# EAGLE library part HC_05 (library Bluetooth HC-05_modified)
HC-05 Bluetooth Module
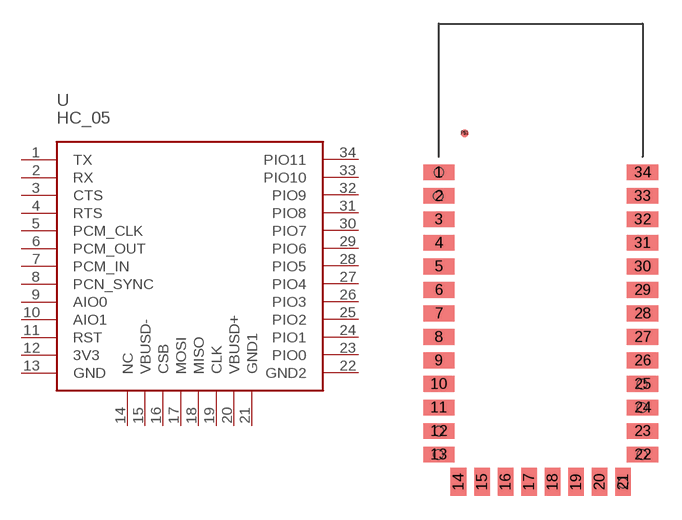
[diagram p0: symbol with the pads of BLUETOOTH_SMD; footprint BLUETOOTH_SMD]

Designator prefix U

## HC_05  [BLUETOOTH_SMD]
1  TX
2  RX
3  CTS
4  RTS
5  PCM_CLK
6  PCM_OUT
7  PCM_IN
8  PCN_SYNC
9  AIO0
10  AIO1
11  RST
12  3V3
13  GND
14  NC
15  VBUSD-
16  CSB
17  MOSI
18  MISO
19  CLK
20  VBUSD+
21  GND1
22  GND2
23  PIO0
24  PIO1
25  PIO2
26  PIO3
27  PIO4
28  PIO5
29  PIO6
30  PIO7
31  PIO8
32  PIO9
33  PIO10
34  PIO11

## HC_05BLUETOOTH_SMD_WITH_HOLES  [BLUETOOTH_SMD]
Pads as for BLUETOOTH_SMD

## Footprint BLUETOOTH_SMD (pad centres in mm)
HC-05
smd 2 x 1: 1 -6.35,3.81; 2 -6.35,2.31; 3 -6.35,0.81; 4 -6.35,-0.69; 5 -6.35,-2.19; 6 -6.35,-3.69; 7 -6.35,-5.19; 8 -6.35,-6.69; 9 -6.35,-8.19; 10 -6.35,-9.69; 11 -6.35,-11.19; 12 -6.35,-12.69; 13 -6.35,-14.19; 22 6.65,-14.19; 23 6.65,-12.69; 24 6.65,-11.19; 25 6.65,-9.69; 26 6.65,-8.19; 27 6.65,-6.69; 28 6.65,-5.19; 29 6.65,-3.69; 30 6.65,-2.19; 31 6.65,-0.69; 32 6.65,0.81; 33 6.65,2.31; 34 6.65,3.81
smd 1 x 1.8: 14 -5.1,-15.94; 15 -3.6,-15.94; 16 -2.1,-15.94; 17 -0.6,-15.94; 18 0.9,-15.94; 19 2.4,-15.94; 20 3.9,-15.94; 21 5.4,-15.94
smd 0.5 x 0.5: P$1 -4.7,6.3
hole 0.6 at -6.35,3.81
hole 0.6 at -6.35,-12.7
hole 0.6 at -6.4,2.3
hole 0.6 at -6.4,-14.2
hole 0.6 at 5.4,-16
hole 0.6 at 6.6,-14.2
hole 0.6 at 6.6,-11.2
hole 0.6 at 6.6,-9.7